# Altium schematic symbol library SCMLI_V3.SchLib: 8 symbols
Pins are listed as number, name and electrical type; pins without a type are passive.

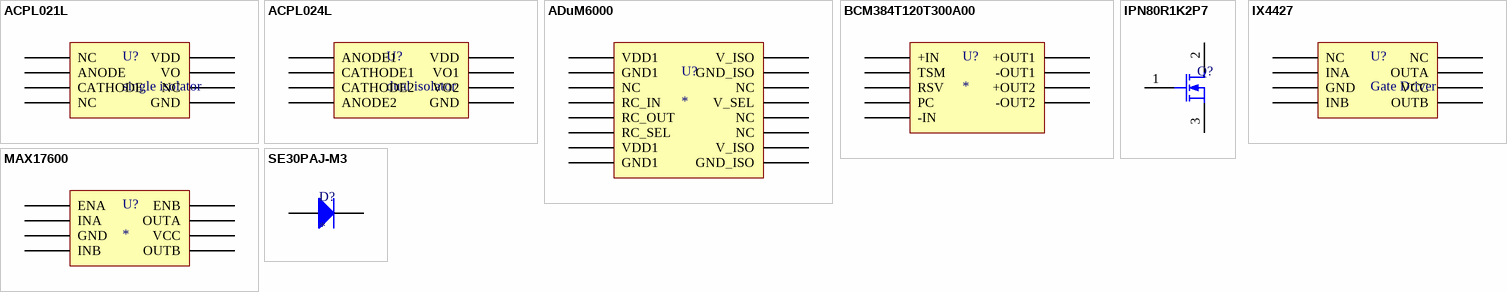
[diagram p0: symbols ACPL021L to SE30PAJ-M3]

## ACPL021L
designator U?, comment single isolator
pins: 1 NC, 2 ANODE, 3 CATHODE, 4 NC, 5 GND, 6 NC, 7 VO, 8 VDD

## ACPL024L
designator U?, comment dual isolator
pins: 1 ANODE1, 2 CATHODE1, 3 CATHODE2, 4 ANODE2, 5 GND, 6 VO2, 7 VO1, 8 VDD

## ADuM6000
designator U?
Isolatd 5V-5V DCDC power supply
footprint SOIC127P1030X265-16N
pins: 1 VDD1, 2 GND1, 3 NC, 4 RC_IN, 5 RC_OUT, 6 RC_SEL, 7 VDD1, 8 GND1, 9 GND_ISO, 10 V_ISO, 11 NC, 12 NC, 13 V_SEL, 14 NC, 15 GND_ISO, 16 V_ISO

## BCM384T120T300A00
designator U?
footprint BCM384T120T300A00 (Vicor 12V 300W DCDC)
pins: 1 +IN, 2 TSM, 3 RSV, 4 PC, 5 -IN, 6 -OUT2, 7 +OUT2, 8 -OUT1, 9 +OUT1

## IPN80R1K2P7
designator Q?  (value not drawn)
footprint SOT233-3
pins: 1, 2, 3

## IX4427
designator U?, comment Gate Driver
footprint DFN-8_DD
pins: 1 NC, 2 INA, 3 GND, 4 INB, 5 OUTB, 6 VCC, 7 OUTA, 8 NC

## MAX17600
designator U?
footprint DFN-8_DD
pins: 1 ENA, 2 INA, 3 GND, 4 INB, 5 OUTB, 6 VCC, 7 OUTA, 8 ENB

## SE30PAJ-M3
designator D?
footprint SE30PAJ-M3 (600V diode)
pins: 1 A, 2 K